# Altium schematic symbol library DPAK508P1524X483-3N.SchLib: 1 symbol
Pins are listed as number, name and electrical type; pins without a type are passive.

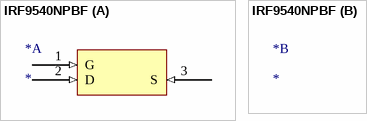
[diagram p0: symbol IRF9540NPBF]

## IRF9540NPBF
designator *
footprint IRF9540NPBF
part A pins: 1 G (in), 2 D (in), 3 S (in)